# Altium footprint library 20021121-00010T4LF.PcbLib: 1 footprints
Each footprint in its own frame and in the unit in brackets; x right, y up, seen from the top. Pads: shape width x height; smd on the part's side, far side on the other; paste and mask are expansions set on the pad; w line width, h text height; cw(c..) or ccw(c..) is an arc to the next point about the centre after c.
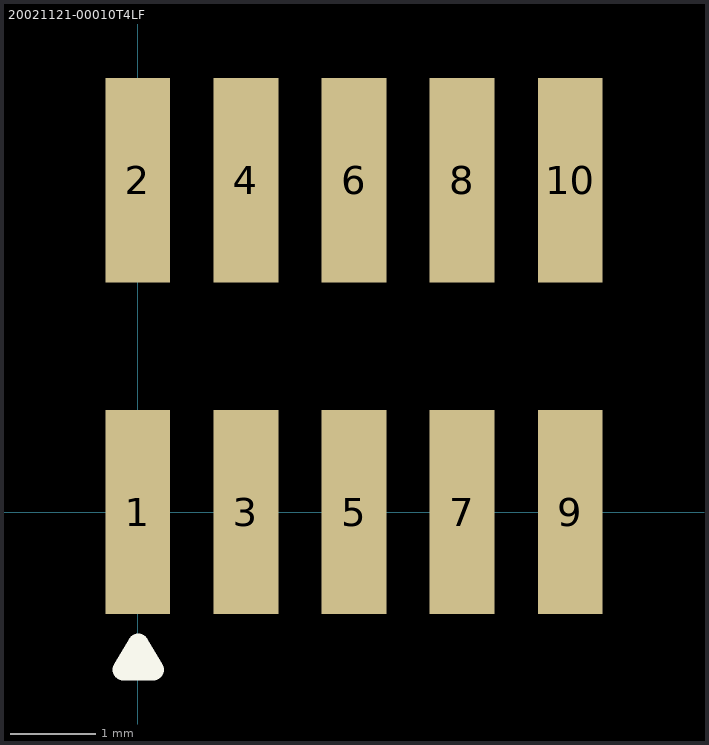
[diagram p0: the footprint, top view; thin cyan lines are the x and y axes]

## 20021121-00010T4LF [mm] "5x2 SMT .05\" pitch male header"
pads (10):
  rect 0.76x2.4 smd paste+0 mask+0.075: 1(0,0) 2(0,3.9) 3(1.27,0) 4(1.27,3.9) 5(2.54,0) 6(2.54,3.9) 7(3.81,0) 8(3.81,3.9) 9(5.08,0) 10(5.08,3.9)
Top Overlay:
  lines w0.254: -0.169,-1.854 0.127,-1.854 0.178,-1.854 0.004,-1.557 -0.169,-1.854